# EAGLE library part ROTARY4X3* (library mita-akiba)
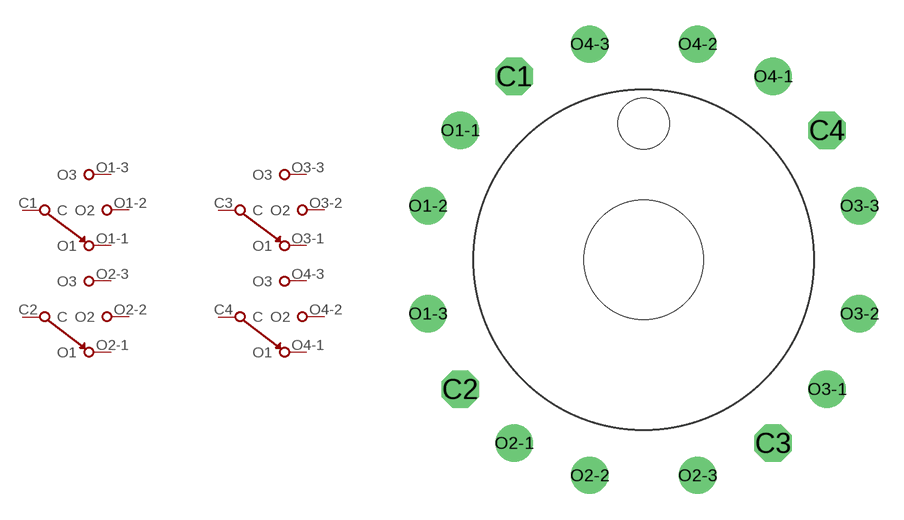
[diagram p34: symbol with the pads of RSW20-12P; footprint RSW20-12P]

Designator prefix -; gates G$1=SW4P G$2=SW4P G$3=SW4P G$4=SW4P

## ROTARY4X320PHI  [RSW20-12P]
C1  G$1:C
C2  G$2:C
C3  G$3:C
C4  G$4:C
O1-1  G$1:O1
O1-2  G$1:O2
O1-3  G$1:O3
O2-1  G$2:O1
O2-2  G$2:O2
O2-3  G$2:O3
O3-1  G$3:O1
O3-2  G$3:O2
O3-3  G$3:O3
O4-1  G$4:O1
O4-2  G$4:O2
O4-3  G$4:O3

## Footprint RSW20-12P (pad centres in mm)
drill 0.9 pad 2.184 octagon: C1 -7.62,10.795; C2 -10.795,-7.62; C3 7.62,-10.795; C4 10.795,7.62
drill 0.9 pad 2.184: O1-1 -10.795,7.62; O1-2 -12.7,3.175; O1-3 -12.7,-3.175; O2-1 -7.62,-10.795; O2-2 -3.175,-12.7; O2-3 3.175,-12.7; O3-1 10.795,-7.62; O3-2 12.7,-3.175; O3-3 12.7,3.175; O4-1 7.62,10.795; O4-2 3.175,12.7; O4-3 -3.175,12.7
hole 7 at 0,0
hole 3 at 0,8